# Altium schematic symbol library Cap_0402.SchLib: 1 symbol
Pins are listed as number, name and electrical type; pins without a type are passive.

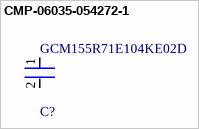
[diagram p0: symbol CMP-06035-054272-1]

## CMP-06035-054272-1
designator C?, comment GCM155R71E104KE02D
Ceramic Capacitor for Automotive 100nF ±10% 25VDC X7R 0402 Paper T/R; Voltage Rating: 25V; Case/Package: 0402; Case Code (Imperial): 0402; Tolerance: 10%; Max Operating Temperature: 125°C; Packaging: Cut Tape; Min Operating Temperature: -55°C; Case Code (Metric): 1005; Mount: Surface Mount; Capacitance: 100nF; Ratings: AEC-Q200
footprint FP-GCM155-0_05-MFG
footprint FP-GCM155-0_05-IPC_C
footprint FP-GCM155-0_05-IPC_A
footprint FP-GCM155-0_05-IPC_B
pins: 1, 2